# EAGLE library part G5RL-U1-E-DC3 (library G5RL-U1-E-DC3)
General Purpose Relays 16A hi swtch curent latching relay Source: Datasheet <https://omronfs.omron.com/en_US/ecb/products/pdf/en-g5rl_uk.pdf>
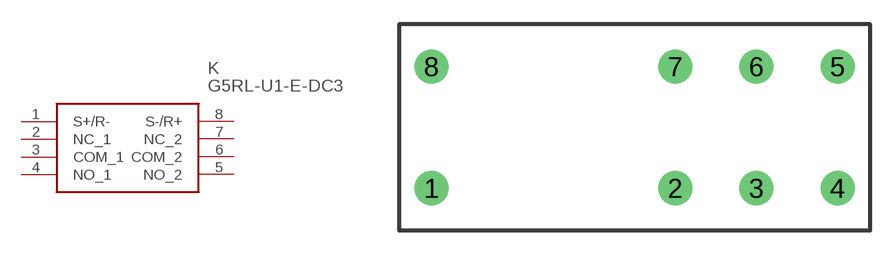
[diagram p0: symbol with the pads of G5RLU1E; footprint G5RLU1E]

Designator prefix K

## G5RL-U1-E-DC3 (Description: General Purpose Relays 16A hi swtch curent latching relay; Height: mm; Manufacturer_Name: Omron Electronics; Manufacturer_Part_Number: G5RL-U1-E-DC3; Mouser_Part_Number: 653-G5RLU1EDC3; Mouser_Price-Stock: https://www.mouser.co.uk/ProductDetail/Omron-Electronics/G5RL-U1-E-DC3?qs=9CM3gX%252B2VGH2i8p8HDDMCw%3D%3D)  [G5RLU1E]
1  S+/R-
2  NC_1
3  COM_1
4  NO_1
5  NO_2
6  COM_2
7  NC_2
8  S-/R+

## Footprint G5RLU1E (pad centres in mm)
G5RLU1E
drill 1.4 pad 2.1: 1 -12.5,-3.75; 2 2.5,-3.75; 3 7.5,-3.75; 4 12.5,-3.75; 5 12.5,3.75; 6 7.5,3.75; 7 2.5,3.75; 8 -12.5,3.75